# Altium schematic symbol library Ceramic Capacitors 0402 6.3V.SchLib: 2 symbols
Pins are listed as number, name and electrical type; pins without a type are passive.

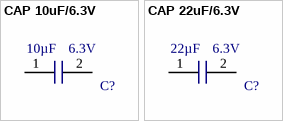
[diagram p0: symbols CAP 10uF/6.3V to CAP 22uF/6.3V]

## CAP 10uF/6.3V
designator C?  Voltage: 6.3V  Capacitance: 10µF  (hidden comment: CAP 10uF/6.3V)
10µF ±20% 6.3V Ceramic Capacitor X5R 0402 (1005 Metric); Manufacturer 1: Yageo; Manufacturer 1 PN: CC0402MRX5R5BB106; Digikey PN: 311-1729-1-ND; Mouser PN: 603-CC402MRX5R5BB106; ComponentLink1Description: Datasheet; ComponentLink1URL: https://search.murata.co.jp/Ceramy/image/img/A01X/G101/ENG/GRM155R60G106ME44-01.pdf
footprint CAP 10uF/6.3V (10µF ±20% 6.3V Ceramic Capacitor X5R 0402 (1005 Metric))
pins: 1, 2

## CAP 22uF/6.3V
designator C?  Voltage: 6.3V  Capacitance: 22µF  (hidden comment: CAP 22uF/6.3V)
22µF ±20% 6.3V Ceramic Capacitor X5R 0402 (1005 Metric); Manufacturer 1: Samsung Electro-Mechanics; Manufacturer 1 PN: CL05A226MQ5N6J8; Digikey PN: 1276-7090-1-ND; ComponentLink1Description: Datasheet; ComponentLink1URL: http://www.samsungsem.com/kr/support/library/product-catalog/__icsFiles/afieldfile/2018/11/28/MLCC.pdf
footprint CAP 22uF/6.3V (22µF ±20% 6.3V Ceramic Capacitor X5R 0402 (1005 Metric))
pins: 1, 2